# Altium footprint library VLS201612E-CA inductor.PcbLib: 1 footprints
Each footprint in its own frame and in the unit in brackets; x right, y up, seen from the top. Pads: shape width x height; smd on the part's side, far side on the other; paste and mask are expansions set on the pad; w line width, h text height; cw(c..) or ccw(c..) is an arc to the next point about the centre after c.
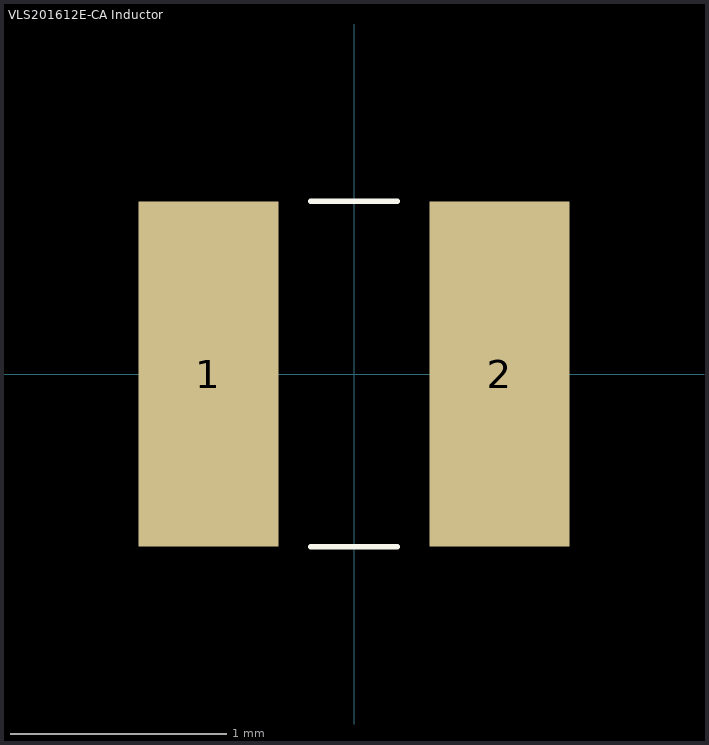
[diagram p0: the footprint, top view; thin cyan lines are the x and y axes]

## VLS201612E-CA Inductor [mm] "VLS201612E-CA Ferrite Inductor"
height 1.2
pads (2):
  rect 0.65x1.6 smd: 1(-0.675,0) 2(0.675,0)
Top Overlay:
  lines w0.025: -0.2,-0.8 0.2,-0.8 ; -0.2,0.8 0.2,0.8